# Altium schematic symbol library SamacSys.SchLib: 10 symbols
Pins are listed as number, name and electrical type; pins without a type are passive.

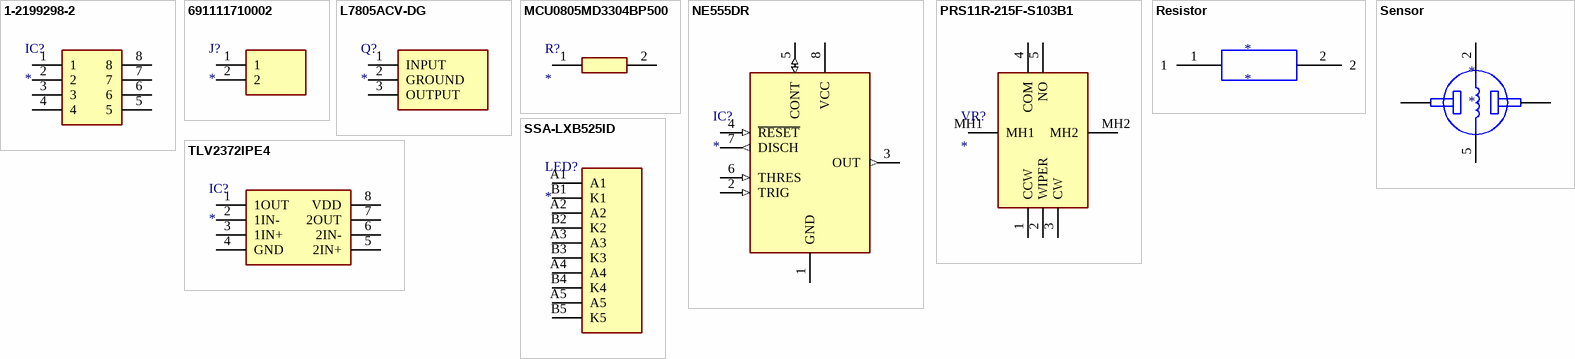
[diagram p0: symbols 1-2199298-2 to TLV2372IPE4]

## 1-2199298-2
designator IC?
Integrated Circuit; Manufacturer_Name: TE Connectivity; Manufacturer_Part_Number: 1-2199298-2; Datasheet Link: https://componentsearchengine.com/Datasheets/2/1-2199298-2.pdf; Height: 5.1mm; Mouser Part Number: 571-1-2199298-2; Mouser Price/Stock: https://www.mouser.co.uk/ProductDetail/TE-Connectivity/1-2199298-2?qs=fK8dlpkaUMtEKa4wabwOXQ%3D%3D; Arrow Part Number: 1-2199298-2; Arrow Price/Stock: https://www.arrow.com/en/products/1-2199298-2/te-connectivity?region=nac
footprint DIPS762W70P254L1016H510Q8N
pins: 1, 2, 3, 4, 5, 6, 7, 8

## 691111710002
designator J?
Connector; Manufacturer_Name: Wurth Elektronik; Manufacturer_Part_Number: 691111710002; Datasheet Link: https://componentsearchengine.com/Datasheets/1/691111710002.pdf; Height: 11mm; Mouser Part Number: 710-691111710002; Mouser Price/Stock: https://www.mouser.co.uk/ProductDetail/Wurth-Elektronik/691111710002?qs=E2PpAYvlWVvK4tIr6ZnZIQ%3D%3D
footprint SHDR2W100P0X500_1X2_1120X800X1100P
pins: 1, 2

## L7805ACV-DG
designator Q?
Transistor; Manufacturer_Name: STMicroelectronics; Manufacturer_Part_Number: L7805ACV-DG; Datasheet Link: https://rs.componentsearchengine.com/Datasheets/2/L7805ACV-DG.pdf; Height: 4.6mm; Mouser Part Number: 511-L7805ACV-DG; Mouser Price/Stock: https://www.mouser.co.uk/ProductDetail/STMicroelectronics/L7805ACV-DG?qs=UOUhb9503hEO7qX1qhGGyg%3D%3D; Arrow Part Number: L7805ACV-DG; Arrow Price/Stock: https://www.arrow.com/en/products/l7805acv-dg/stmicroelectronics?region=europe
footprint TO255P460X1020X1968-3P
pins: 1 INPUT, 2 GROUND, 3 OUTPUT

## MCU0805MD3304BP500
designator R?
Resistor; Manufacturer_Name: Vishay; Manufacturer_Part_Number: MCU0805MD3304BP500; Description: Thin Film Resistors - SMD .2W 3.3Mohms .1% '0805 25ppm AEC-Q200; Datasheet Link: https://www.mouser.in/datasheet/2/427/mc_at_precision-1762846.pdf; Height: 0.62mm; Mouser Part Number: 594-MCU0805MD3304BP5; Mouser Price/Stock: https://www.mouser.co.uk/ProductDetail/Vishay-Beyschlag/MCU0805MD3304BP500?qs=A6eO%252BMLsxmSZlVWVx087zg%3D%3D
footprint RESC2012X62N
pins: 1, 2

## NE555DR
designator IC?
Integrated Circuit; Manufacturer_Name: Texas Instruments; Manufacturer_Part_Number: NE555DR; Datasheet Link: http://www.ti.com/lit/ds/symlink/ne555.pdf; Height: 1.75mm; Mouser Part Number: 595-NE555DR; Mouser Price/Stock: https://www.mouser.com/Search/Refine.aspx?Keyword=595-NE555DR; RS Part Number: 1218414; RS Price/Stock: http://uk.rs-online.com/web/p/products/1218414
footprint SOIC127P600X175-8N
pins: 1 GND (power), 2 TRIG (in), 3 OUT (out), 4 ~{RESET} (in), 5 CONT (io), 6 THRES (in), 7 DISCH (out), 8 VCC (power)

## PRS11R-215F-S103B1
designator VR?
Variable Resistor; Manufacturer_Name: Bourns; Manufacturer_Part_Number: PRS11R-215F-S103B1; Description: 16 mm Rotary Metal Shaft Potentiometer; Datasheet Link: https://www.mouser.com/catalog/specsheets/Bourns_03252021_PRS11R_datasheet.pdf; Height: 13.1mm; Mouser Part Number: 652-PRS11R215FS103B1; Mouser Price/Stock: https://www.mouser.co.uk/ProductDetail/Bourns/PRS11R-215F-S103B1?qs=IS%252B4QmGtzzqZRwzYowTZrA%3D%3D
footprint PRS11R215FS103B1
pins: 1 CCW, 2 WIPER, 3 CW, 4 COM, 5 NO, MH1, MH2

## Resistor
designator *
footprint resistor
pins: 1, 2

## Sensor
designator *
footprint XDCR_SEN-08880
pins: 1 A, 2 H1, 3 A, 4 B, 5 H2, 6 B

## SSA-LXB525ID
designator LED?
LED (Multiple); Manufacturer_Name: Lumex; Manufacturer_Part_Number: SSA-LXB525ID; Datasheet Link: https://datasheet.datasheetarchive.com/originals/dk/DKDS-14/273372.pdf; Height: 8.4mm; Mouser Part Number: 696-SSA-LXB525ID; Mouser Price/Stock: https://www.mouser.co.uk/ProductDetail/Lumex/SSA-LXB525ID?qs=K%252Bxkc0srH7Bjt6LUAQzTgQ%3D%3D; Arrow Part Number: SSA-LXB525ID; Arrow Price/Stock: https://www.arrow.com/en/products/ssa-lxb525id/lumex
footprint SSALXB525ID
pins: A1, A2, A3, A4, A5, B1 K1, B2 K2, B3 K3, B4 K4, B5 K5

## TLV2372IPE4
designator IC?
Integrated Circuit; Manufacturer_Name: Texas Instruments; Manufacturer_Part_Number: TLV2372IPE4; Datasheet Link: https://www.ti.com/lit/ds/symlink/tlv2372.pdf?HQS=dis-mous-null-mousermode-dsf-pf-null-wwe&ts=1629019626151&ref_url=https%253A%252F%252Feu.mouser.com%252F; Height: 5.08mm; Mouser Part Number: 595-TLV2372IPE4; Mouser Price/Stock: https://www.mouser.co.uk/ProductDetail/Texas-Instruments/TLV2372IPE4?qs=Fg5TsMy7H4snCOvpV3HllA%3D%3D
footprint DIP794W53P254L959H508Q8N
pins: 1 1OUT, 2 1IN-, 3 1IN+, 4 GND, 5 2IN+, 6 2IN-, 7 2OUT, 8 VDD